# EAGLE library part 2-1825059-4 (library Switches)
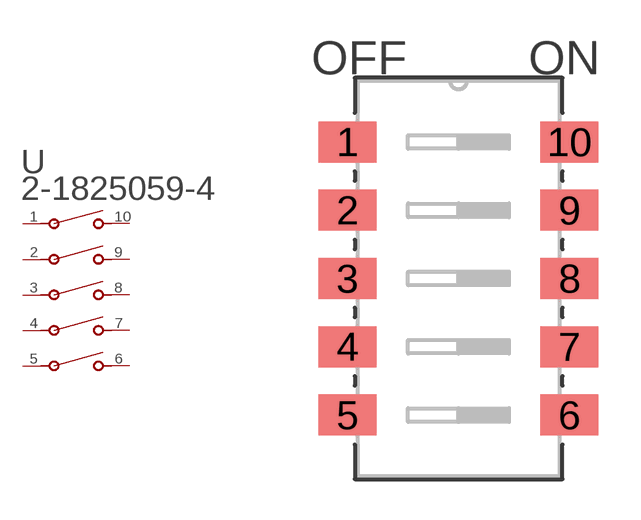
[diagram p1: symbol with the pads of SWSO10_325X138P100; footprint SWSO10_325X138P100]

Designator prefix U

## 2-1825059-4 (BUILT_BY: EMA_UL_Team; CATEGORY: DIP & SIP Switches; COPYRIGHT: Copyright (C) 2016 Accelerated Designs. All rights reserved; DESCRIPTION: ADF05STTR04=DIP S,FLUSH,SMT-GW; MANUFACTURER_PART_NUMBER: 2-1825059-4; PART_STATUS: active; SERIES: Alcoswitch DIP,Alcoswitch DIP ADF; VENDOR: TE Connectivity)  [SWSO10_325X138P100]
1  1  pas
2  2  pas
3  3  pas
4  4  pas
5  5  pas
6  6  pas
7  7  pas
8  8  pas
9  9  pas
10  10  pas

## Footprint SWSO10_325X138P100 (pad centres in mm)
smd 2.159 x 1.524: 1 -4.128,5.08; 2 -4.128,2.54; 3 -4.128,0; 4 -4.128,-2.54; 5 -4.128,-5.08; 6 4.128,-5.08; 7 4.128,-2.54; 8 4.128,0; 9 4.128,2.54; 10 4.128,5.08